# Altium schematic symbol library ERJ-2RKF4991X.SchLib: 1 symbol
Pins are listed as number, name and electrical type; pins without a type are passive.

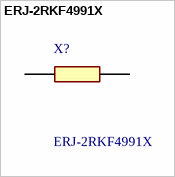
[diagram p0: symbol ERJ-2RKF4991X]

## ERJ-2RKF4991X
designator X?
Panasonic Surface Mount Fixed Resistor 4.99 k 0.1 W +/-100 ppm/C; Geometry.Height: 0.4mm; Mouser Part Number: 667-ERJ-2RKF4991X; Mouser Price/Stock: https://www.mouser.co.uk/ProductDetail/Panasonic/ERJ-2RKF4991X?qs=6%252BUraArZVSDr040UMVCnHQ%3D%3D; Manufacturer_Name: Panasonic; Manufacturer_Part_Number: ERJ-2RKF4991X; Datasheet Link: https://industrial.panasonic.com/cdbs/www-data/pdf/RDA0000/AOA0000C86.pdf
footprint ERJ2RKD1004X
pins: 1, 2